# Altium schematic symbol library SCH - MISC - Mounting Hole.SCHLIB: 1 symbol
Pins are listed as number, name and electrical type; pins without a type are passive.

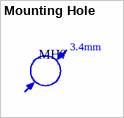
[diagram p0: symbol Mounting Hole]

## Mounting Hole
designator MH?, comment mounting hole 3,4mm  (value not drawn)  (no BOM)
Non plated through hole, 3.4mm
footprint MH_3.4
text: 3.4mm